# EAGLE library part CHIPCAP2 (library Pinoccio)
GE - ChipCap2 - CC2D I2C - Humidity and Temperature Sensor
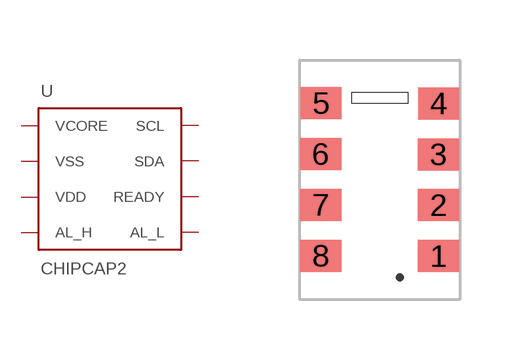
[diagram p23: symbol with the pads of CHIPCAP2; footprint CHIPCAP2]

Designator prefix -

## CHIPCAP2  [CHIPCAP2]
1  AL_L  out
2  READY  out
3  SDA
4  SCL  in
5  VCORE  pwr
6  VSS  sup
7  VDD  pwr
8  AL_H  out

## Footprint CHIPCAP2 (pad centres in mm)
GE - ChipCap2 - CC2D I2C - Humidity and Temperature Sensor
smd 1.03 x 0.8: 1 3.473,1.089; 2 3.476,2.364; 3 3.473,3.636; 4 3.483,4.911; 5 0.533,4.92; 6 0.523,3.645; 7 0.526,2.373; 8 0.523,1.098